# EAGLE library part PSRAM_LY68L6400 (library mastrogippo)
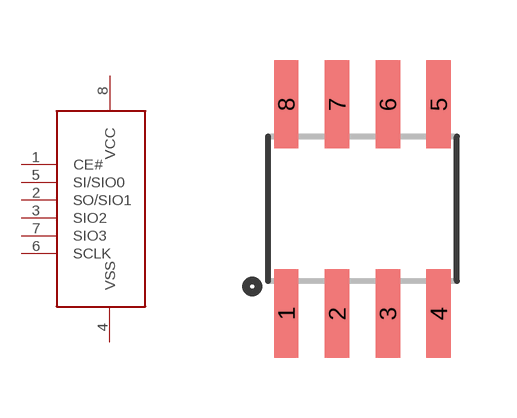
[diagram p38: symbol with the pads of SO08; footprint SO08]

Designator prefix -

## PSRAM_LY68L6400  [SO08]
1  CE#
2  SO/SIO1
3  SIO2
4  VSS
5  SI/SIO0
6  SCLK
7  SIO3
8  VCC

## Footprint SO08 (pad centres in mm)
smd 0.61 x 2.21: 1 -1.905,-2.616; 2 -0.635,-2.616; 3 0.635,-2.616; 4 1.905,-2.616; 5 1.905,2.616; 6 0.635,2.616; 7 -0.635,2.616; 8 -1.905,2.616